# Altium footprint library Inductors.PcbLib: 3 footprints
Each footprint in its own frame and in the unit in brackets; x right, y up, seen from the top. Pads: shape width x height; smd on the part's side, far side on the other; paste and mask are expansions set on the pad; w line width, h text height; cw(c..) or ccw(c..) is an arc to the next point about the centre after c.
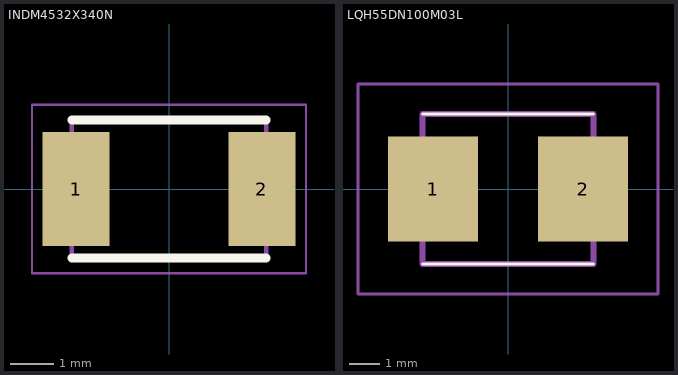
[diagram p0: the footprints below, top view; thin cyan lines are the x and y axes]

## INDM4532X340N [mm]
pads (2):
  rect 1.55x2.65 smd: 1(-2.15,0) 2(2.15,0)
Top Overlay:
  lines w0.2: -2.25,-1.6 2.25,-1.6 ; -2.25,1.6 2.25,1.6
Mechanical 13:
  lines w0.1: -2.25,-1.6 2.25,-1.6 2.25,1.6 -2.25,1.6 -2.25,-1.6
Mechanical 15:
  lines w0.05: -3.175,-1.95 3.175,-1.95 3.175,1.95 -3.175,1.95 -3.175,-1.95
3D body "NLC453232T-470K-PF.stp": height 3.4, standoff 0, extent -2.25,-1.6 2.25,1.6

## LQH55DN100M03L [mm]
pads (2):
  rect 3x3.5 smd: 1(-2.5,0) 2(2.5,0)
Top Overlay:
  lines w0.1: -2.85,-2.5 2.85,-2.5 ; -2.85,2.5 2.85,2.5
Mechanical 13:
  lines w0.2: -2.85,-2.5 2.85,-2.5 2.85,2.5 -2.85,2.5 -2.85,-2.5
Mechanical 15:
  lines w0.1: -5,-3.5 5,-3.5 5,3.5 -5,3.5 -5,-3.5
3D body "LQH55DN470M03K.stp": height 4.7, standoff 0, extent -2.85,-2.5 2.85,2.5

## PCBComponent_1 [mm]